# Altium schematic symbol library 天线.SchLib: 1 symbol
Pins are listed as number, name and electrical type; pins without a type are passive.

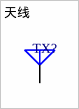
[diagram p0: symbol 天线]

## 天线
designator TX?, comment 75cm  (value not drawn)
footprint SMA_FR
pins: 1